# Altium footprint library Zond_ctrl_v1.PcbLib: 38 footprints (part 1 of 3)
Each footprint in its own frame and in the unit in brackets; x right, y up, seen from the top. Pads: shape width x height; smd on the part's side, far side on the other; paste and mask are expansions set on the pad; w line width, h text height; cw(c..) or ccw(c..) is an arc to the next point about the centre after c.
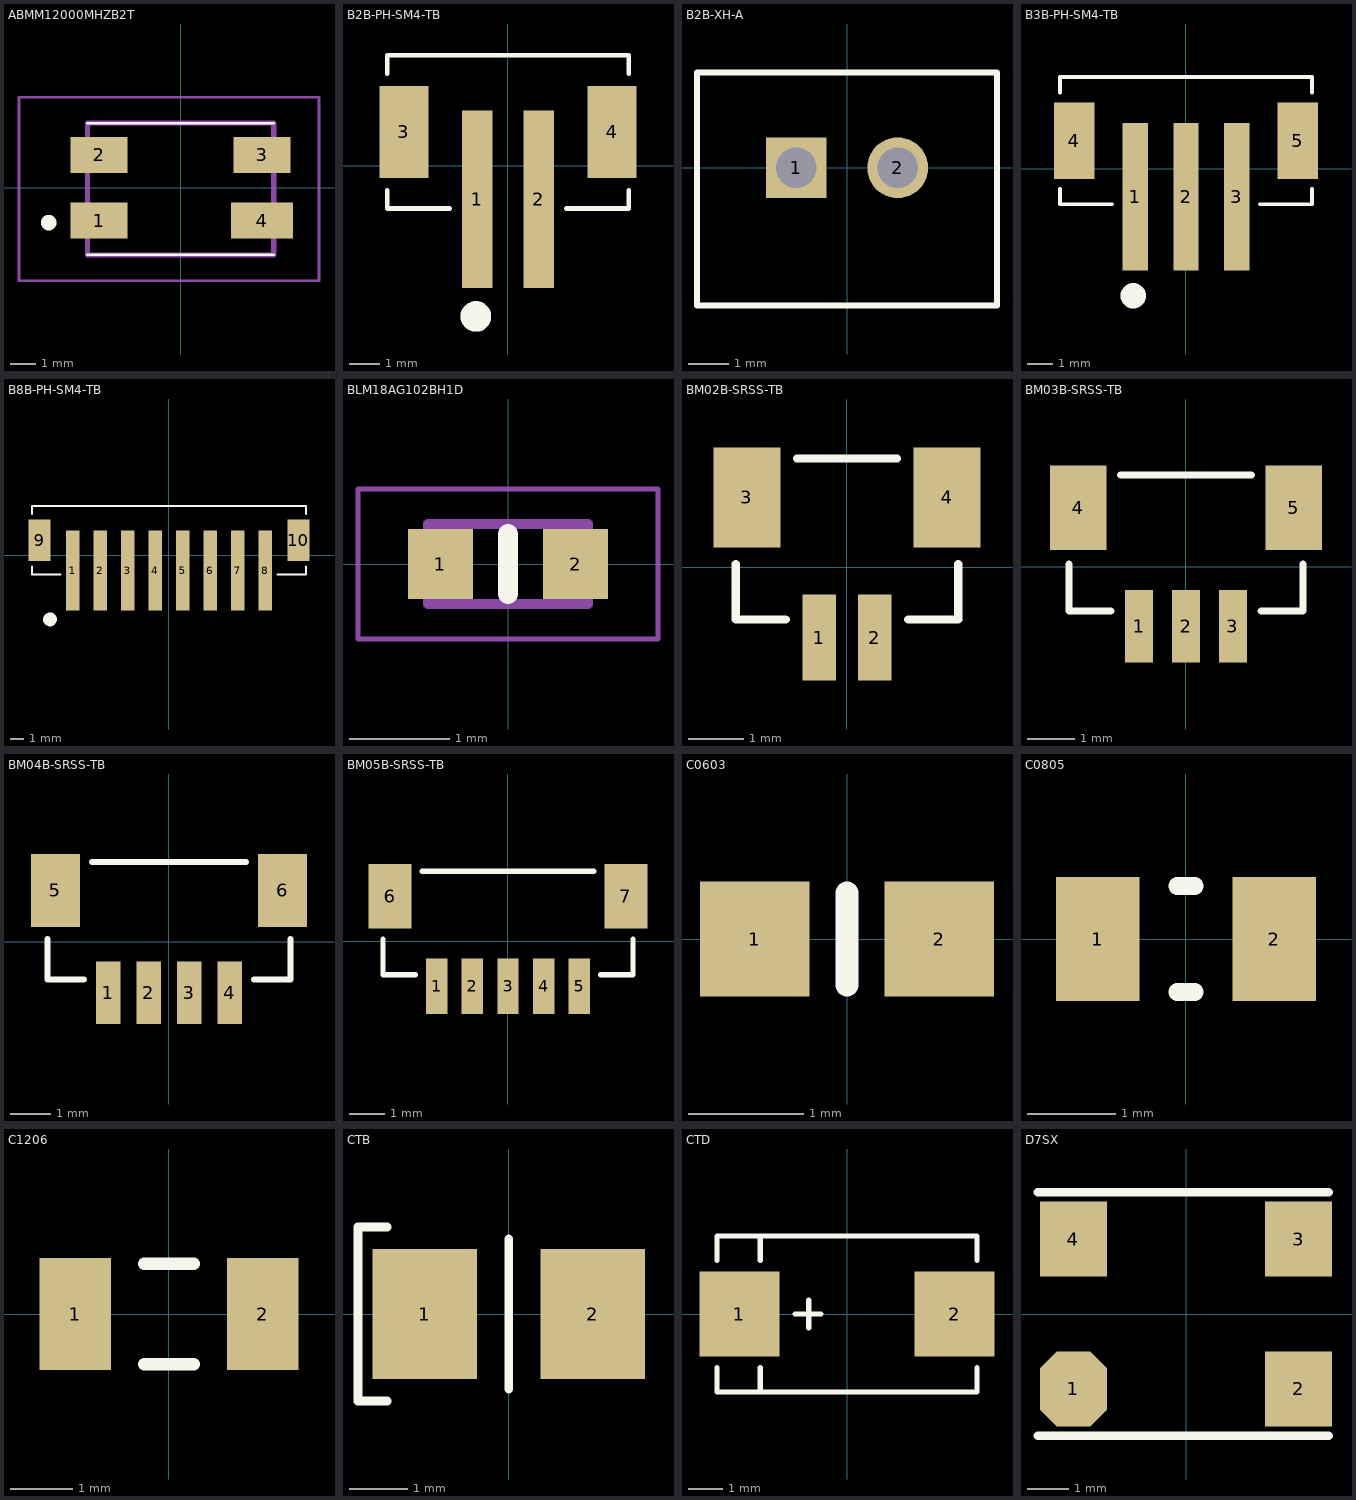
[diagram p0: the footprints below, top view; thin cyan lines are the x and y axes]

## ABMM12000MHZB2T [mm]
height 2.05
pads (4):
  rect 2.2x1.4 smd: 1(-3.15,-1.27) 2(-3.15,1.27) 3(3.15,1.27)
  rect 2.4x1.4 smd: 4(3.15,-1.27)
Top Overlay:
  lines w0.1: -3.6,-2.6 3.6,-2.6 ; -3.6,2.5 3.6,2.5
  lines w0.3: -5.1,-1.5 ccw(c-5.1,-1.35) -5.1,-1.2 ccw(c-5.1,-1.35) -5.1,-1.5
Mechanical 13:
  lines w0.2: -3.6,-2.6 3.6,-2.6 3.6,2.5 -3.6,2.5 -3.6,-2.6
Mechanical 15:
  lines w0.1: -6.25,-3.6 5.35,-3.6 5.35,3.5 -6.25,3.5 -6.25,-3.6
3D body "ABMM-12.000MHZ-B2-T.stp": height 1.4, standoff 0, extent -4.11,-2.6 4.21,2.5

## B2B-PH-SM4-TB [mm]
height 2.05
pads (4):
  rect 1x5.8 smd: 1(-1,-1.1) 2(1,-1.1)
  rect 1.6x3 smd: 3(-3.4,1.1) 4(3.4,1.1)
Top Overlay:
  circle w0.6: c-1.05,-4.925 r0.2
  lines w0.15: -3.95,-0.8 -3.95,-1.4 -1.9,-1.4 ; -3.95,3 -3.95,3.6 3.95,3.6 3.95,3 ; 1.9,-1.4 3.95,-1.4 3.95,-0.8
3D body "B2B-PH-SM3-TB.STEP": height 6.6, standoff 0, extent -3.946,-3.36 3.954,3.64

## B2B-XH-A [mm]
height 2.05
pads (2):
  rect 1.5x1.5 hole 1: 1(-1.25,0)
  round 1.5 hole 1: 2(1.25,0)
Top Overlay:
  lines w0.15: -3.7,-3.4 3.7,-3.4 3.7,2.35 -3.7,2.35 -3.7,-3.4
3D body "B2B-XH-A.STEP": height 7, standoff -2.5, extent -3.714,-3.429 3.686,2.321

## B3B-PH-SM4-TB [mm]
height 2.05
pads (5):
  rect 1x5.8 smd: 1(-2,-1.1) 2(0,-1.1) 3(2,-1.1)
  rect 1.6x3 smd: 4(-4.4,1.1) 5(4.4,1.1)
Top Overlay:
  circle w0.6: c-2.075,-5 r0.2
  lines w0.15: -4.95,-0.8 -4.95,-1.4 -2.9,-1.4 ; -4.95,3 -4.95,3.6 4.95,3.6 4.95,3 ; 2.9,-1.4 4.95,-1.4 4.95,-0.8
3D body "B3B-PH-SM3-TB.STEP": height 6.6, standoff 0, extent -4.946,-3.36 4.954,3.64

## B8B-PH-SM4-TB [mm]
height 3
pads (10):
  rect 1x5.8 smd: 1(-7,-1.1) 2(-5,-1.1) 3(-3,-1.1) 4(-1,-1.1) 5(1,-1.1) 6(3,-1.1) 7(5,-1.1) 8(7,-1.1)
  rect 1.6x3 smd: 9(-9.4,1.1) 10(9.4,1.1)
Top Overlay:
  circle w0.6: c-8.65,-4.65 r0.2
  lines w0.15: -9.95,-0.8 -9.95,-1.4 -7.9,-1.4 ; -9.95,3 -9.95,3.6 9.95,3.6 9.95,3 ; 7.9,-1.4 9.95,-1.4 9.95,-0.8
3D body "B8B-PH-SM3-TB.STEP": height 6.6, standoff 0, extent -9.958,-3.401 9.942,3.599

## BLM18AG102BH1D [mm]
height 2.05
pads (2):
  rect 0.65x0.7 smd: 1(-0.675,0) 2(0.675,0)
Top Overlay:
  lines w0.2: 0,-0.3 0,0.3
Mechanical 13:
  lines w0.1: -0.8,-0.4 0.8,-0.4 0.8,0.4 -0.8,0.4 -0.8,-0.4
Mechanical 15:
  lines w0.05: -1.5,-0.75 1.5,-0.75 1.5,0.75 -1.5,0.75 -1.5,-0.75
3D body "BLM18PG121SN1D.stp": height 1.05, standoff 0, extent -0.935,-0.4 0.935,0.4

## BM02B-SRSS-TB [mm]
height 2.05
pads (4):
  rect 0.6x1.55 smd: 1(-0.5,-1.262) 2(0.5,-1.262)
  rect 1.2x1.8 smd: 3(-1.8,1.263) 4(1.8,1.263)
Top Overlay:
  lines w0.15: -2,0.063 -2,-0.937 -1.1,-0.937 ; -0.9,1.963 0.9,1.963 ; 1.1,-0.937 2,-0.937 2,0.063
3D body "BM02B-SRSS-TB.STEP": height 4.25, standoff 0, extent -2,-1.537 2,2.063

## BM03B-SRSS-TB [mm]
height 2.05
pads (5):
  rect 0.6x1.55 smd: 1(-1,-1.262) 2(0,-1.262) 3(1,-1.262)
  rect 1.2x1.8 smd: 4(-2.3,1.263) 5(2.3,1.263)
Top Overlay:
  lines w0.15: -2.5,0.063 -2.5,-0.937 -1.6,-0.937 ; -1.4,1.963 1.4,1.963 ; 1.6,-0.937 2.5,-0.937 2.5,0.063
3D body "BM03B-SRSS-TB.STEP": height 4.25, standoff 0, extent -2.509,-1.637 2.491,1.963

## BM04B-SRSS-TB [mm]
height 2.05
pads (6):
  rect 0.6x1.55 smd: 1(-1.5,-1.262) 2(-0.5,-1.262) 3(0.5,-1.262) 4(1.5,-1.262)
  rect 1.2x1.8 smd: 5(-2.8,1.263) 6(2.8,1.263)
Top Overlay:
  lines w0.15: -3,0.063 -3,-0.937 -2.1,-0.937 ; -1.9,1.963 1.9,1.963 ; 2.1,-0.937 3,-0.937 3,0.063
3D body "BM04B-SRSS-TB.STEP": height 4.25, standoff 0, extent -2.999,-1.618 3.001,1.982

## BM05B-SRSS-TB [mm]
height 2.05
pads (7):
  rect 0.6x1.55 smd: 1(-2,-1.262) 2(-1,-1.262) 3(0,-1.262) 4(1,-1.262) 5(2,-1.262)
  rect 1.2x1.8 smd: 6(-3.3,1.263) 7(3.3,1.263)
Top Overlay:
  lines w0.15: -3.5,0.063 -3.5,-0.937 -2.6,-0.937 ; -2.4,1.963 2.4,1.963 ; 2.6,-0.937 3.5,-0.937 3.5,0.063
3D body "BM05B-SRSS-TB.STEP": height 4.3, standoff -0.02, extent -3.5,-1.638 3.5,1.962

## C0603 [mm]
height 2.05
pads (2):
  rect 0.95x1 smd: 1(-0.8,0) 2(0.8,0)
Top Overlay:
  lines w0.2: 0,-0.4 0,0.4
3D body "C0603.STEP": height 0.8, standoff 0, extent -0.813,-0.406 0.787,0.394

## C0805 [mm]
height 2.05
pads (2):
  rect 0.95x1.4 smd: 1(-1,0) 2(1,0)
Top Overlay:
  lines w0.2: -0.1,-0.6 0.1,-0.6 ; -0.1,0.6 0.1,0.6
3D body "C0805.STEP": height 0.85, standoff 0, extent -1.016,-0.635 0.984,0.615

## C1206 [mm]
height 2.05
pads (2):
  rect 1.15x1.8 smd: 1(-1.5,0) 2(1.5,0)
Top Overlay:
  lines w0.2: -0.4,-0.8 0.4,-0.8 ; -0.4,0.8 0.4,0.8
3D body "C1206.STEP": height 1.6, standoff 0, extent -1.6,-0.8 1.6,0.8

## CTB [mm]
height 2.05
pads (2):
  rect 1.8x2.25 smd: 1(-1.45,0) 2(1.45,0)
Top Overlay:
  lines w0.15: -2.1,-1.5 -2.6,-1.5 -2.6,1.5 -2.1,1.5 ; 0,-1.3 0,1.3
3D body "CTB.STEP": height 1.9, standoff 0, extent -1.752,-1.4 1.75,1.4

## CTD [mm]
height 2.05
pads (2):
  rect 2.3x2.45 smd: 1(-3.1,0) 2(3.1,0)
Top Overlay:
  lines w0.15: -3.75,-1.55 -3.75,-2.25 3.75,-2.25 3.75,-1.55 ; -3.75,1.55 -3.75,2.25 3.75,2.25 3.75,1.55 ; -2.5,-2.25 -2.5,-1.55 ; -2.5,1.55 -2.5,2.25 ; -1.5,0 -0.75,0 ; -1.1,-0.4 -1.1,0.4
3D body "CTD.STEP": height 2.8, standoff 0, extent -3.65,-2.15 3.652,2.15

## D7SX [mm]
height 1.5
pads (4):
  oct 1.6x1.8 smd: 1(-2.7,-1.8)
  rect 1.6x1.8 smd: 2(2.7,-1.8) 3(2.7,1.8) 4(-2.7,1.8)
Top Overlay:
  lines w0.2: -3.556,-2.921 3.429,-2.921 ; -3.556,2.921 3.429,2.921
3D body "HXO-36B.STEP": height 1.5, standoff 0, extent -3.5,-2.5 3.5,2.5